# Altium footprint library ICs.PcbLib: 1 footprints
Each footprint in its own frame and in the unit in brackets; x right, y up, seen from the top. Pads: shape width x height; smd on the part's side, far side on the other; paste and mask are expansions set on the pad; w line width, h text height; cw(c..) or ccw(c..) is an arc to the next point about the centre after c.
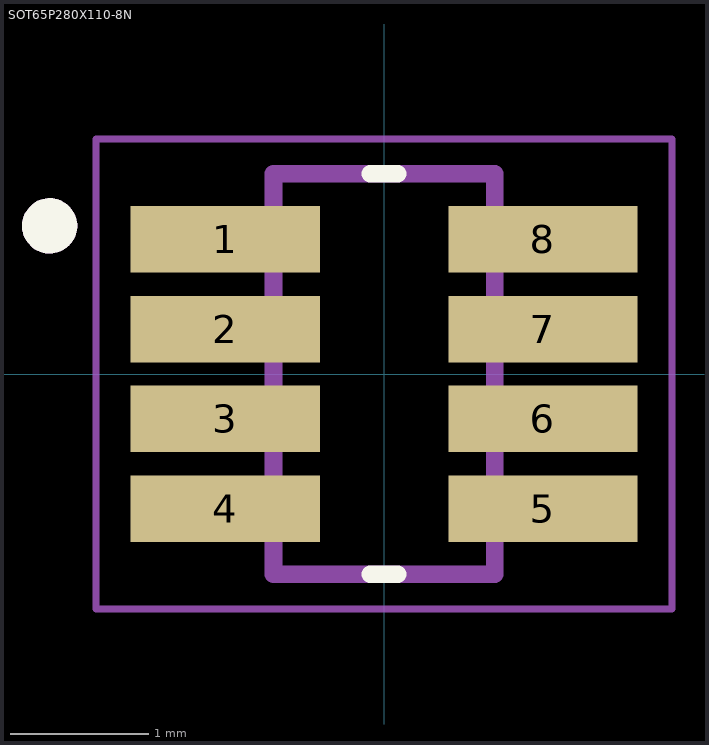
[diagram p0: the footprint, top view; thin cyan lines are the x and y axes]

## SOT65P280X110-8N [mm]
height 1.1
pads (8):
  rect 1.37x0.48 smd: 1(-1.15,0.975) 2(-1.15,0.325) 3(-1.15,-0.325) 4(-1.15,-0.975) 5(1.15,-0.975) 6(1.15,-0.325) 7(1.15,0.325) 8(1.15,0.975)
Top Overlay:
  circle w0.2: c-2.42,1.072 r0.1
  lines w0.127: -0.1,-1.45 0.1,-1.45 ; -0.1,1.45 0.1,1.45
Mechanical 13:
  circle w0.2: c-2.42,1.072 r0.1
  lines w0.127: -0.8,-1.45 -0.8,1.45 0.8,1.45 0.8,-1.45 -0.8,-1.45
Mechanical 15:
  lines w0.05: -2.085,-1.7 2.085,-1.7 2.085,1.7 -2.085,1.7 -2.085,-1.7
3D body "step_temp.STEP": height 1.1, standoff 0, extent -1.4,-1.45 1.4,1.45